# Altium footprint library SWITCH_DIP.PCBLIB: 26 footprints (part 2 of 2)
Each footprint in its own frame and in the unit in brackets; x right, y up, seen from the top. Pads: shape width x height; smd on the part's side, far side on the other; paste and mask are expansions set on the pad; w line width, h text height; cw(c..) or ccw(c..) is an arc to the next point about the centre after c.
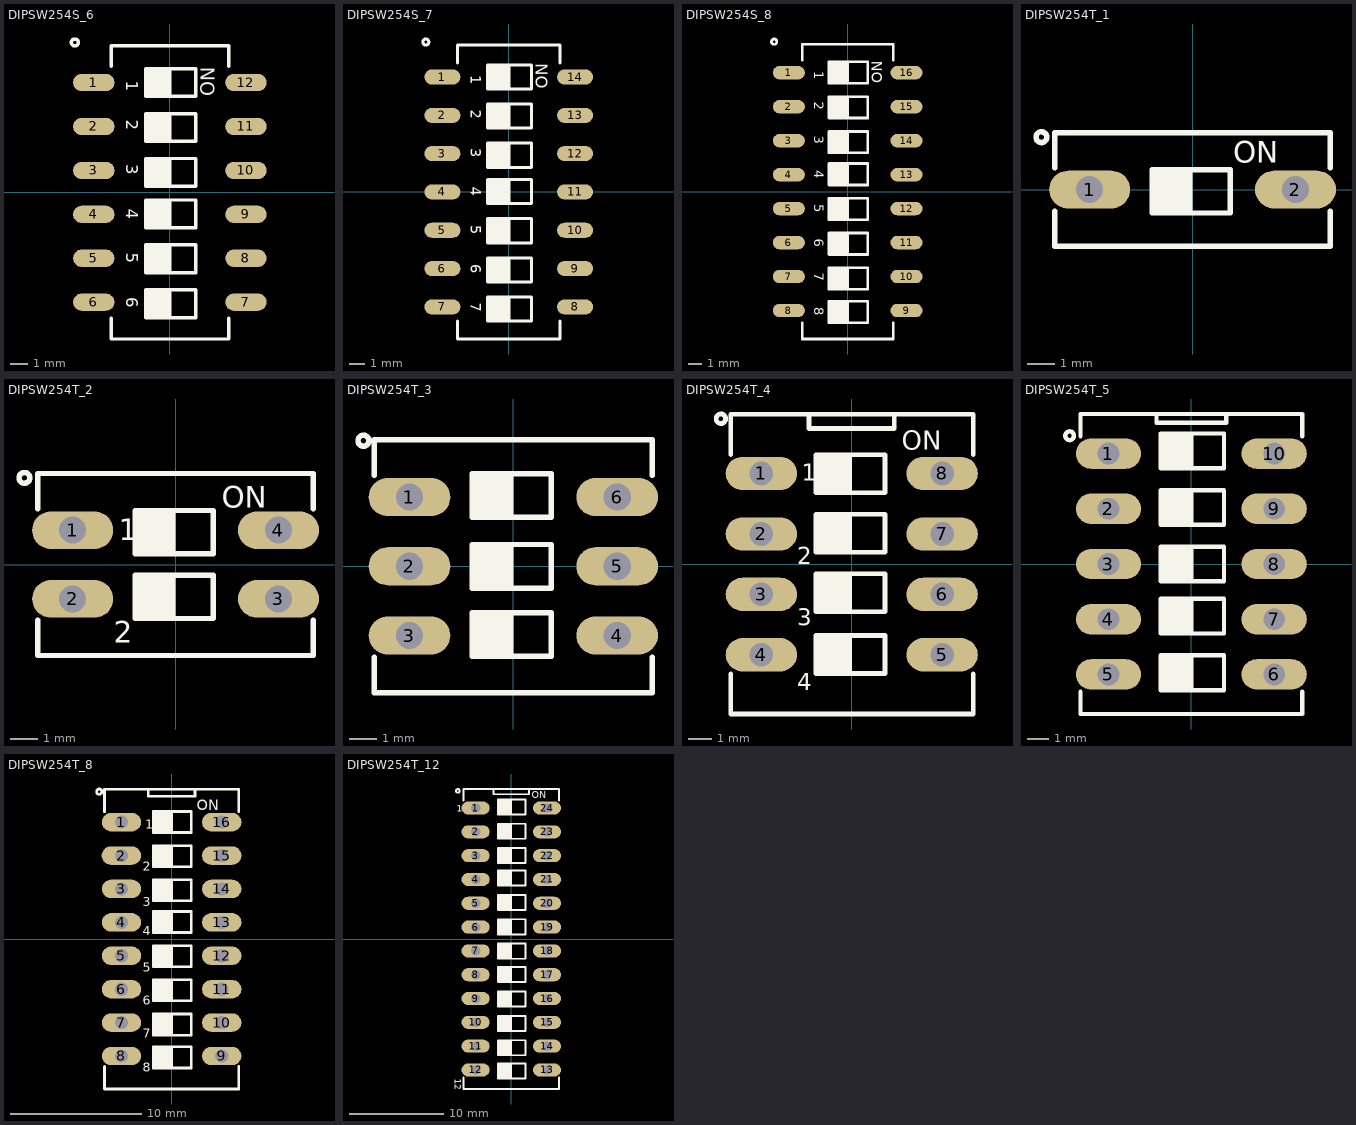
[diagram p1: the footprints below, top view; thin cyan lines are the x and y axes]

## DIPSW254S_6 [mm] "SWITCH DIP 6POS, THD, 2.54mm,"
height 6.5
pads (12):
  oval 2.4x1 smd: 1(-4.4,6.35) 2(-4.4,3.81) 3(-4.4,1.27) 4(-4.4,-1.27) 5(-4.4,-3.81) 6(-4.4,-6.35) 7(4.4,-6.35) 8(4.4,-3.81) 9(4.4,-1.27) 10(4.4,1.27) 11(4.4,3.81) 12(4.4,6.35)
TopOverlay:
  circle w0.2: c-5.5,8.67 r0.2
  rectangle: -1.4,-7.24 0.1,-5.64
  rectangle: -1.4,-4.64 0.1,-3.04
  rectangle: -1.4,-2.04 0.1,-0.44
  rectangle: -1.4,0.36 0.1,1.96
  rectangle: -1.4,2.96 0.1,4.56
  rectangle: -1.4,5.56 0.1,7.16
  lines w0.2: -3.39,-7.28 -3.39,-8.48 3.41,-8.48 3.41,-7.28 ; -3.39,7.28 -3.39,8.48 3.41,8.48 3.41,7.28 ; -1.4,-7.24 1.5,-7.24 1.5,-5.64 -1.4,-5.64 -1.4,-7.24 ; -1.4,-4.64 1.5,-4.64 1.5,-3.04 -1.4,-3.04 -1.4,-4.64 ; -1.4,-2.04 1.5,-2.04 1.5,-0.44 -1.4,-0.44 -1.4,-2.04 ; -1.4,0.36 1.5,0.36 1.5,1.96 -1.4,1.96 -1.4,0.36 ; -1.4,2.96 1.5,2.96 1.5,4.56 -1.4,4.56 -1.4,2.96 ; -1.4,5.56 1.5,5.56 1.5,7.16 -1.4,7.16 -1.4,5.56
  text "6" at -2.51,-6.055 h0.7
  text "5" at -2.51,-3.494 h0.7
  text "4" at -2.51,-0.934 h0.7
  text "3" at -2.51,1.627 h0.7
  text "2" at -2.51,4.187 h0.7
  text "1" at -2.51,6.451 h0.7
  text "ON" at 2.6,5.56 h0.8
3D body "User Library-DIP SW 6P.step": height 4.15, standoff 0, extent -4.95,-8.355 4.95,8.355

## DIPSW254S_7 [mm] "SWITCH DIP 7POS, THD, 2.54mm,"
height 6.5
pads (14):
  oval 2.4x1 smd: 1(-4.4,7.62) 2(-4.4,5.08) 3(-4.4,2.54) 4(-4.4,0) 5(-4.4,-2.54) 6(-4.4,-5.08) 7(-4.4,-7.62) 8(4.4,-7.62) 9(4.4,-5.08) 10(4.4,-2.54) 11(4.4,0) 12(4.4,2.54) 13(4.4,5.08) 14(4.4,7.62)
TopOverlay:
  circle w0.2: c-5.5,9.94 r0.2
  rectangle: -1.4,6.83 0.1,8.43
  rectangle: -1.4,4.23 0.1,5.83
  rectangle: -1.4,1.63 0.1,3.23
  rectangle: -1.4,-0.77 0.1,0.83
  rectangle: -1.4,-3.37 0.1,-1.77
  rectangle: -1.4,-5.97 0.1,-4.37
  rectangle: -1.4,-8.57 0.1,-6.97
  lines w0.2: -3.39,-8.55 -3.39,-9.75 3.41,-9.75 3.41,-8.55 ; -3.39,8.55 -3.39,9.75 3.41,9.75 3.41,8.55 ; -1.4,-8.57 -1.4,-6.97 1.5,-6.97 1.5,-8.57 -1.4,-8.57 ; -1.4,-5.97 -1.4,-4.37 1.5,-4.37 1.5,-5.97 -1.4,-5.97 ; -1.4,-3.37 -1.4,-1.77 1.5,-1.77 1.5,-3.37 -1.4,-3.37 ; -1.4,-0.77 -1.4,0.83 1.5,0.83 1.5,-0.77 -1.4,-0.77 ; -1.4,1.63 -1.4,3.23 1.5,3.23 1.5,1.63 -1.4,1.63 ; -1.4,4.23 -1.4,5.83 1.5,5.83 1.5,4.23 -1.4,4.23 ; -1.4,6.83 -1.4,8.43 1.5,8.43 1.5,6.83 -1.4,6.83
  text "ON" at 2.6,6.83 h0.8
  text "1" at -2.51,7.721 h0.7
  text "2" at -2.51,5.457 h0.7
  text "3" at -2.51,2.897 h0.7
  text "4" at -2.51,0.336 h0.7
  text "5" at -2.51,-2.224 h0.7
  text "6" at -2.51,-4.785 h0.7
  text "7" at -2.51,-7.345 h0.7
3D body "User Library-DIP SW 7P.step": height 4.15, standoff 0, extent -4.95,-9.625 4.95,9.625

## DIPSW254S_8 [mm] "SWITCH DIP 8POS, THD, 2.54mm,"
height 6.5
pads (16):
  oval 2.4x1 smd: 1(-4.4,8.89) 2(-4.4,6.35) 3(-4.4,3.81) 4(-4.4,1.27) 5(-4.4,-1.27) 6(-4.4,-3.81) 7(-4.4,-6.35) 8(-4.4,-8.89) 9(4.4,-8.89) 10(4.4,-6.35) 11(4.4,-3.81) 12(4.4,-1.27) 13(4.4,1.27) 14(4.4,3.81) 15(4.4,6.35) 16(4.4,8.89)
TopOverlay:
  circle w0.2: c-5.5,11.21 r0.2
  rectangle: -1.4,-9.8 0.1,-8.2
  rectangle: -1.4,-7.3 0.1,-5.7
  rectangle: -1.4,-4.7 0.1,-3.1
  rectangle: -1.4,-2.1 0.1,-0.5
  rectangle: -1.4,0.5 0.1,2.1
  rectangle: -1.4,2.9 0.1,4.5
  rectangle: -1.4,5.5 0.1,7.1
  rectangle: -1.4,8.1 0.1,9.7
  lines w0.2: -3.39,-9.82 -3.39,-11.02 3.41,-11.02 3.41,-9.82 ; -3.39,9.82 -3.39,11.02 3.41,11.02 3.41,9.82 ; -1.4,-9.8 1.5,-9.8 1.5,-8.2 -1.4,-8.2 -1.4,-9.8 ; -1.4,-7.3 1.5,-7.3 1.5,-5.7 -1.4,-5.7 -1.4,-7.3 ; -1.4,-4.7 1.5,-4.7 1.5,-3.1 -1.4,-3.1 -1.4,-4.7 ; -1.4,-2.1 1.5,-2.1 1.5,-0.5 -1.4,-0.5 -1.4,-2.1 ; -1.4,0.5 1.5,0.5 1.5,2.1 -1.4,2.1 -1.4,0.5 ; -1.4,2.9 1.5,2.9 1.5,4.5 -1.4,4.5 -1.4,2.9 ; -1.4,5.5 1.5,5.5 1.5,7.1 -1.4,7.1 -1.4,5.5 ; -1.4,8.1 1.5,8.1 1.5,9.7 -1.4,9.7 -1.4,8.1
  text "8" at -2.51,-8.636 h0.7
  text "7" at -2.51,-6.075 h0.7
  text "6" at -2.51,-3.515 h0.7
  text "5" at -2.51,-0.954 h0.7
  text "4" at -2.51,1.606 h0.7
  text "3" at -2.51,4.167 h0.7
  text "2" at -2.51,6.727 h0.7
  text "1" at -2.51,8.991 h0.7
  text "ON" at 2.6,8.1 h0.8
3D body "User Library-DIP SW 8P.step": height 4.15, standoff 0, extent -4.95,-10.895 4.95,10.895

## DIPSW254T_1 [mm] "SWITCH DIP 1POS, THD, 2.54mm"
height 6.5
pads (2):
  oval 3x1.4 / inner round 1.4 / far side oval 2.2x1.4 hole 1: 1(-3.81,0) 2(3.81,0)
TopOverlay:
  circle w0.2: c-5.6,1.94 r0.2
  rectangle: -1.5,-0.87 0,0.73
  lines w0.2: -5.1,-0.8 -5.1,-2.1 5.1,-2.1 5.1,-0.8 ; -5.1,0.8 -5.1,2.1 5.1,2.1 5.1,0.8 ; -1.5,-0.87 -1.5,0.73 1.4,0.73 1.4,-0.87 -1.5,-0.87
  text "ON" at 1.5,1 h0.8
3D body "User Library-DIP_1.step": height 6.86, standoff -3.62, extent -5,-2 5,2

## DIPSW254T_2 [mm] "SWITCH DIP 2POS, THD, 2.54mm, SD02"
height 6.5
pads (4):
  oval 3x1.4 / inner round 1.4 / far side oval 2.2x1.4 hole 1: 1(-3.81,1.27) 2(-3.81,-1.27) 3(3.81,-1.27) 4(3.81,1.27)
TopOverlay:
  circle w0.2: c-5.6,3.21 r0.2
  rectangle: -1.5,-2 0,-0.4
  rectangle: -1.5,0.4 0,2
  lines w0.2: -5.1,-2.07 -5.1,-3.37 5.1,-3.37 5.1,-2.07 ; -5.1,2.07 -5.1,3.37 5.1,3.37 5.1,2.07 ; -1.5,-2 -1.5,-0.4 1.4,-0.4 1.4,-2 -1.5,-2 ; -1.5,0.4 -1.5,2 1.4,2 1.4,0.4 -1.5,0.4
  text "ON" at 1.7,2.1 h0.8
  text "1" at -2.1,0.9 h0.8
  text "2" at -2.3,-2.9 h0.8
3D body "SSGM120100.STEP": height 5, standoff -3, extent -4.704,-3.45 4.704,3.45

## DIPSW254T_3 [mm] "SWITCH DIP 3POS, THD, 2.54mm, SD03"
pads (6):
  oval 3x1.4 / inner round 1.4 / far side oval 2.2x1.4 hole 1: 1(-3.81,2.54) 2(-3.81,0) 3(-3.81,-2.54) 4(3.81,-2.54) 5(3.81,0) 6(3.81,2.54)
TopOverlay:
  circle w0.2: c-5.5,4.61 r0.2
  rectangle: -1.5,-3.3 0,-1.7
  rectangle: -1.5,-0.8 0,0.8
  rectangle: -1.5,1.8 0,3.4
  lines w0.2: -5.1,-3.34 -5.1,-4.64 5.1,-4.64 5.1,-3.34 ; -5.1,3.34 -5.1,4.64 5.1,4.64 5.1,3.34 ; -1.5,-3.3 -1.5,-1.7 1.4,-1.7 1.4,-3.3 -1.5,-3.3 ; -1.5,-0.8 -1.5,0.8 1.4,0.8 1.4,-0.8 -1.5,-0.8 ; -1.5,1.8 -1.5,3.4 1.4,3.4 1.4,1.8 -1.5,1.8
3D body "SSGM130100.STEP": height 5.3, standoff -2.7, extent -4.704,-4.7 4.704,4.7

## DIPSW254T_4 [mm] "SWITCH DIP 4POS, THD, 2.54mm, YL04"
height 6.5
pads (8):
  oval 3x1.4 / inner round 1.4 / far side oval 2.2x1.4 hole 1 mask+0.1: 1(-3.8,3.81) 2(-3.8,1.27) 3(-3.8,-1.27) 4(-3.8,-3.81) 5(3.8,-3.81) 6(3.8,-1.27) 7(3.8,1.27) 8(3.8,3.81)
TopOverlay:
  circle w0.2: c-5.5,6.11 r0.2
  rectangle: -1.5,3 0,4.6
  rectangle: -1.5,0.5 0,2.1
  rectangle: -1.5,-2 0,-0.4
  rectangle: -1.5,-4.6 0,-3
  lines w0.2: -5.09,-4.61 -5.09,-6.3 5.11,-6.3 5.11,-4.61 ; -5.09,4.61 -5.09,6.3 5.11,6.3 5.11,4.61 ; -1.8,6.3 -1.8,5.7 1.79,5.7 1.79,6.3 ; -1.5,-4.6 -1.5,-3 1.4,-3 1.4,-4.6 -1.5,-4.6 ; -1.5,-2 -1.5,-0.4 1.4,-0.4 1.4,-2 -1.5,-2 ; -1.5,0.5 -1.5,2.1 1.4,2.1 1.4,0.5 -1.5,0.5 ; -1.5,3 1.4,3 1.4,4.6 -1.5,4.6 -1.5,3
  text "ON" at 2.1,4.8 h0.8
  text "1" at -2.1,3.5 h0.7
  text "2" at -2.3,0 h0.7
  text "3" at -2.3,-2.6 h0.7
  text "4" at -2.3,-5.3 h0.7
3D body "User Library-DIP SWITCH 4 POS CTS 206.step": height 8.14, standoff -3.5, extent -4.89,-6.17 4.89,6.17

## DIPSW254T_5 [mm] "SWITCH DIP 5POS, THD, 2.54mm,"
pads (10):
  oval 3x1.4 / inner round 1.4 / far side oval 2.2x1.4 hole 1: 1(-3.81,5.08) 2(-3.81,2.54) 3(-3.81,0) 4(-3.81,-2.54) 5(-3.81,-5.08) 6(3.81,-5.08) 7(3.81,-2.54) 8(3.81,0) 9(3.81,2.54) 10(3.81,5.08)
TopOverlay:
  circle w0.2: c-5.6,5.9 r0.2
  rectangle: -1.4,4.4 0.1,6
  rectangle: -1.4,1.8 0.1,3.4
  rectangle: -1.4,-0.8 0.1,0.8
  rectangle: -1.4,-3.2 0.1,-1.6
  rectangle: -1.4,-5.8 0.1,-4.2
  lines w0.2: -5.1,-5.88 -5.1,-6.9 5.1,-6.9 5.1,-5.88 ; -5.1,5.88 -5.1,6.9 5.1,6.9 5.1,5.88 ; -1.6,6.9 -1.6,6.5 1.6,6.5 1.6,6.9 ; -1.4,-5.8 -1.4,-4.2 1.5,-4.2 1.5,-5.8 -1.4,-5.8 ; -1.4,-3.2 -1.4,-1.6 1.5,-1.6 1.5,-3.2 -1.4,-3.2 ; -1.4,-0.8 -1.4,0.8 1.5,0.8 1.5,-0.8 -1.4,-0.8 ; -1.4,1.8 -1.4,3.4 1.5,3.4 1.5,1.8 -1.4,1.8 ; -1.4,4.4 -1.4,6 1.5,6 1.5,4.4 -1.4,4.4
3D body "User Library-DIP-10.step": height 7, standoff -3.7, extent -4.95,-6.8 4.95,6.9

## DIPSW254T_8 [mm] "SWITCH DIP 8POS, THD, 2.54mm,"
height 6.5
pads (16):
  oval 3x1.4 / inner round 1.4 / far side oval 2.2x1.4 hole 1: 1(-3.805,8.89) 2(-3.815,6.35) 3(-3.805,3.81) 4(-3.805,1.27) 5(-3.805,-1.27) 6(-3.805,-3.81) 7(-3.805,-6.35) 8(-3.805,-8.89) 9(3.815,-8.89) 10(3.815,-6.35) 11(3.815,-3.81) 12(3.815,-1.27) 13(3.815,1.27) 14(3.815,3.81) 15(3.815,6.35) 16(3.815,8.89)
TopOverlay:
  circle w0.2: c-5.5,11.21 r0.2
  rectangle: -1.4,8.1 0.1,9.7
  rectangle: -1.4,5.5 0.1,7.1
  rectangle: -1.4,2.9 0.1,4.5
  rectangle: -1.4,0.5 0.1,2.1
  rectangle: -1.4,-2.1 0.1,-0.5
  rectangle: -1.4,-4.7 0.1,-3.1
  rectangle: -1.4,-7.3 0.1,-5.7
  rectangle: -1.4,-9.8 0.1,-8.2
  lines w0.2: -5.095,-9.69 -5.095,-11.4 5.105,-11.4 5.105,-9.69 ; -5.095,9.69 -5.095,11.4 5.105,11.4 5.105,9.69 ; -1.773,11.371 -1.773,10.863 1.783,10.863 1.783,11.371 ; -1.4,-9.8 -1.4,-8.2 1.5,-8.2 1.5,-9.8 -1.4,-9.8 ; -1.4,-7.3 -1.4,-5.7 1.5,-5.7 1.5,-7.3 -1.4,-7.3 ; -1.4,-4.7 -1.4,-3.1 1.5,-3.1 1.5,-4.7 -1.4,-4.7 ; -1.4,-2.1 -1.4,-0.5 1.5,-0.5 1.5,-2.1 -1.4,-2.1 ; -1.4,0.5 -1.4,2.1 1.5,2.1 1.5,0.5 -1.4,0.5 ; -1.4,2.9 -1.4,4.5 1.5,4.5 1.5,2.9 -1.4,2.9 ; -1.4,5.5 -1.4,7.1 1.5,7.1 1.5,5.5 -1.4,5.5 ; -1.4,8.1 -1.4,9.7 1.5,9.7 1.5,8.1 -1.4,8.1
  text "ON" at 1.9,9.8 h0.8
  text "1" at -2,8.4 h0.7
  text "2" at -2.2,5.2 h0.7
  text "3" at -2.2,2.5 h0.7
  text "4" at -2.2,0.3 h0.7
  text "5" at -2.2,-2.5 h0.7
  text "6" at -2.2,-5 h0.7
  text "7" at -2.2,-7.5 h0.7
  text "8" at -2.2,-10.1 h0.7
3D body "SW3dPS-DIP SWITCH 8 POS CTS 206.STEP": height 8.25, standoff -3.5, extent -4.89,-11.25 4.89,11.25

## DIPSW254T_12 [mm] "SWITCH DIP 12POS, THD, 2.54mm,"
pads (24):
  oval 3x1.4 / inner round 1.4 / far side oval 2.2x1.4 hole 1: 1(-3.81,13.97) 2(-3.81,11.43) 3(-3.81,8.89) 4(-3.81,6.35) 5(-3.81,3.81) 6(-3.81,1.27) 7(-3.81,-1.27) 8(-3.81,-3.81) 9(-3.81,-6.35) 10(-3.81,-8.89) 11(-3.81,-11.43) 12(-3.81,-13.97) 13(3.81,-13.97) 14(3.81,-11.43) 15(3.81,-8.89) 16(3.81,-6.35) 17(3.81,-3.81) 18(3.81,-1.27) 19(3.81,1.27) 20(3.81,3.81) 21(3.81,6.35) 22(3.81,8.89) 23(3.81,11.43) 24(3.81,13.97)
TopOverlay:
  circle w0.2: c-5.7,15.8 r0.2
  rectangle: -1.4,13.3 0.1,14.9
  rectangle: -1.4,10.7 0.1,12.3
  rectangle: -1.4,8.1 0.1,9.7
  rectangle: -1.4,5.7 0.1,7.3
  rectangle: -1.4,3.1 0.1,4.7
  rectangle: -1.4,0.5 0.1,2.1
  rectangle: -1.4,-2.1 0.1,-0.5
  rectangle: -1.4,-4.6 0.1,-3
  rectangle: -1.4,-14.9 0.1,-13.3
  rectangle: -1.4,-12.4 0.1,-10.8
  rectangle: -1.4,-9.8 0.1,-8.2
  rectangle: -1.4,-7.2 0.1,-5.6
  lines w0.2: -5.1,-14.77 -5.1,-16 5.1,-16 5.1,-14.77 ; -5.1,14.77 -5.1,16 5.1,16 5.1,14.77 ; -1.91,15.951 -1.91,15.443 1.9,15.443 1.9,15.951 ; -1.4,-14.9 1.5,-14.9 1.5,-13.3 -1.4,-13.3 -1.4,-14.9 ; -1.4,-12.4 1.5,-12.4 1.5,-10.8 -1.4,-10.8 -1.4,-12.4 ; -1.4,-9.8 1.5,-9.8 1.5,-8.2 -1.4,-8.2 -1.4,-9.8 ; -1.4,-7.2 1.5,-7.2 1.5,-5.6 -1.4,-5.6 -1.4,-7.2 ; -1.4,-4.6 -1.4,-3 1.5,-3 1.5,-4.6 -1.4,-4.6 ; -1.4,-2.1 -1.4,-0.5 1.5,-0.5 1.5,-2.1 -1.4,-2.1 ; -1.4,0.5 -1.4,2.1 1.5,2.1 1.5,0.5 -1.4,0.5 ; -1.4,3.1 -1.4,4.7 1.5,4.7 1.5,3.1 -1.4,3.1 ; -1.4,5.7 -1.4,7.3 1.5,7.3 1.5,5.7 -1.4,5.7 ; -1.4,8.1 -1.4,9.7 1.5,9.7 1.5,8.1 -1.4,8.1 ; -1.4,10.7 -1.4,12.3 1.5,12.3 1.5,10.7 -1.4,10.7 ; -1.4,13.3 -1.4,14.9 1.5,14.9 1.5,13.3 -1.4,13.3
  text "1" at -5.8,13.6 h0.7
  text "12" at -6.01,-14.93 h0.7
  text "ON" at 2.2,15 h0.75
Mechanical1:
  circle w0.025: c3.81,13.97 r0.254
  circle w0.025: c3.81,11.43 r0.254
  circle w0.025: c3.81,8.89 r0.254
  circle w0.025: c3.81,6.35 r0.254
  circle w0.025: c-3.81,6.35 r0.254
  circle w0.025: c-3.81,8.89 r0.254
  circle w0.025: c-3.82,11.43 r0.254
  circle w0.025: c-3.81,13.97 r0.254
  circle w0.025: c-3.81,3.81 r0.254
  circle w0.025: c3.81,3.81 r0.254
  circle w0.025: c3.81,1.27 r0.254
  circle w0.025: c-3.81,1.27 r0.254
  circle w0.025: c-3.81,-1.27 r0.254
  circle w0.025: c3.81,-3.81 r0.254
  circle w0.025: c-3.81,-3.81 r0.254
3D body: height 5.59, standoff 0, extent -1.448,-13.208 1.443,-12.192
3D body: height 5.08, standoff 0.25, extent -0.737,-14.732 1.443,-13.208
3D body: height 6.35, standoff 0.25, extent -1.448,-14.732 -0.737,-13.208
3D body: height 5.59, standoff 0, extent -1.448,-10.668 1.443,-9.652
3D body: height 5.08, standoff 0.25, extent -0.737,-12.192 1.443,-10.668
3D body: height 6.35, standoff 0.25, extent -1.448,-12.192 -0.737,-10.668
3D body: height 5.59, standoff 0, extent -1.448,-8.128 1.443,-7.112
3D body: height 5.08, standoff 0.25, extent -0.737,-9.652 1.443,-8.128
3D body: height 6.35, standoff 0.25, extent -1.448,-9.652 -0.737,-8.128
3D body: height 5.59, standoff 0, extent -1.448,-5.588 1.443,-4.572
3D body: height 5.08, standoff 0.25, extent -0.737,-7.112 1.443,-5.588
3D body: height 6.35, standoff 0.25, extent -1.448,-7.112 -0.737,-5.588
3D body: height 5.59, standoff 0, extent -1.448,-3.048 1.443,-2.032
3D body: height 5.08, standoff 0.25, extent -0.737,-4.572 1.443,-3.048
3D body: height 6.35, standoff 0.25, extent -1.448,-4.572 -0.737,-3.048
3D body: height 5.59, standoff 0, extent -1.448,-0.508 1.443,0.508
3D body: height 5.08, standoff 0.25, extent -0.737,-2.032 1.443,-0.508
3D body: height 6.35, standoff 0.25, extent -1.448,-2.032 -0.737,-0.508
3D body: height 5.59, standoff 0, extent -1.448,2.032 1.443,3.048
3D body: height 5.08, standoff 0.25, extent -0.737,0.508 1.443,2.032
3D body: height 6.35, standoff 0.25, extent -1.448,0.508 -0.737,2.032
3D body: height 5.59, standoff 0, extent -1.448,4.572 1.443,5.588
3D body: height 5.08, standoff 0.25, extent -0.737,3.048 1.443,4.572
3D body: height 6.35, standoff 0.25, extent -1.448,3.048 -0.737,4.572
3D body: height 6.35, standoff 0.25, extent -1.448,10.668 -0.737,12.192
3D body: height 5.08, standoff 0.25, extent -0.737,10.668 1.443,12.192
3D body: height 5.59, standoff 0, extent -1.448,9.652 1.443,10.668
3D body: height 5.59, standoff 0, extent -1.448,7.112 1.443,8.128
3D body: height 5.59, standoff 0, extent -1.448,12.192 1.443,13.208
3D body: height 6.35, standoff 0.25, extent -1.448,5.588 -0.737,7.112
3D body: height 5.08, standoff 0.25, extent -0.737,5.588 1.443,7.112
3D body: height 6.35, standoff 0.25, extent -1.448,8.128 -0.737,9.652
3D body: height 5.08, standoff 0.25, extent -0.737,8.128 1.443,9.652
3D body: height 5.08, standoff 0.25, extent -0.737,13.208 1.443,14.732
3D body: height 6.35, standoff 0.25, extent -1.448,13.208 -0.737,14.732
3D body: height 5.59, standoff 0.25, extent 2.205,11.605 3.757,13.171
3D body: height 5.59, standoff 0.03, extent 2.28,13.716 3.697,14.524
3D body: height 5.59, standoff 0.25, extent 2.195,13.308 3.769,14.926
3D body: height 5.59, standoff 0, extent -1.448,14.732 1.443,15.443
3D body: height 0.25, standoff 0.05, extent -4.953,-16.002 4.953,15.951
3D body: height 5.59, standoff 0, extent -4.953,-16.002 4.953,15.951
3D body: height 3.81, standoff 0, extent -1.91,15.443 1.9,15.951
3D body: height 0.76, standoff 0, extent -4.063,6.097 -3.557,6.603
3D body: height 0.76, standoff 0, extent -4.063,8.637 -3.557,9.143
3D body: height 0.76, standoff 0, extent -4.073,11.177 -3.567,11.683
3D body: height 0.76, standoff 0, extent -4.063,13.717 -3.557,14.223
3D body: height 0.76, standoff 0, extent 3.557,6.097 4.063,6.603
3D body: height 0.76, standoff 0, extent 3.557,8.637 4.063,9.143
3D body: height 0.76, standoff 0, extent 3.557,11.177 4.063,11.683
3D body: height 0.76, standoff 0, extent 3.557,13.717 4.063,14.223
3D body: height 0.76, standoff 0, extent 3.557,-1.523 4.063,-1.017
3D body: height 0.76, standoff 0, extent 3.557,-4.063 4.063,-3.557
3D body: height 0.76, standoff 0, extent 3.557,1.017 4.063,1.523
3D body: height 0.76, standoff 0, extent -4.063,3.557 -3.557,4.063
3D body: height 0.76, standoff 0, extent -4.063,1.017 -3.557,1.523
3D body: height 0.76, standoff 0, extent -4.063,-1.523 -3.557,-1.017
3D body: height 0.76, standoff 0, extent -4.063,-4.063 -3.557,-3.557
3D body: height 0.76, standoff 0, extent -4.063,-6.603 -3.557,-6.097
3D body: height 0.76, standoff 0, extent -4.063,-9.143 -3.557,-8.637
3D body: height 0.76, standoff 0, extent -4.063,-11.683 -3.557,-11.177
3D body: height 0.76, standoff 0, extent -4.063,-14.223 -3.557,-13.717
3D body: height 0.76, standoff 0, extent 3.557,-14.223 4.063,-13.717
3D body: height 0.76, standoff 0, extent 3.557,-11.683 4.063,-11.177
3D body: height 0.76, standoff 0, extent 3.557,-9.143 4.063,-8.637
3D body: height 0.76, standoff 0, extent 3.557,-6.603 4.063,-6.097